# Altium footprint library component_lib.PcbLib: 7 footprints
Each footprint in its own frame and in the unit in brackets; x right, y up, seen from the top. Pads: shape width x height; smd on the part's side, far side on the other; paste and mask are expansions set on the pad; w line width, h text height; cw(c..) or ccw(c..) is an arc to the next point about the centre after c.
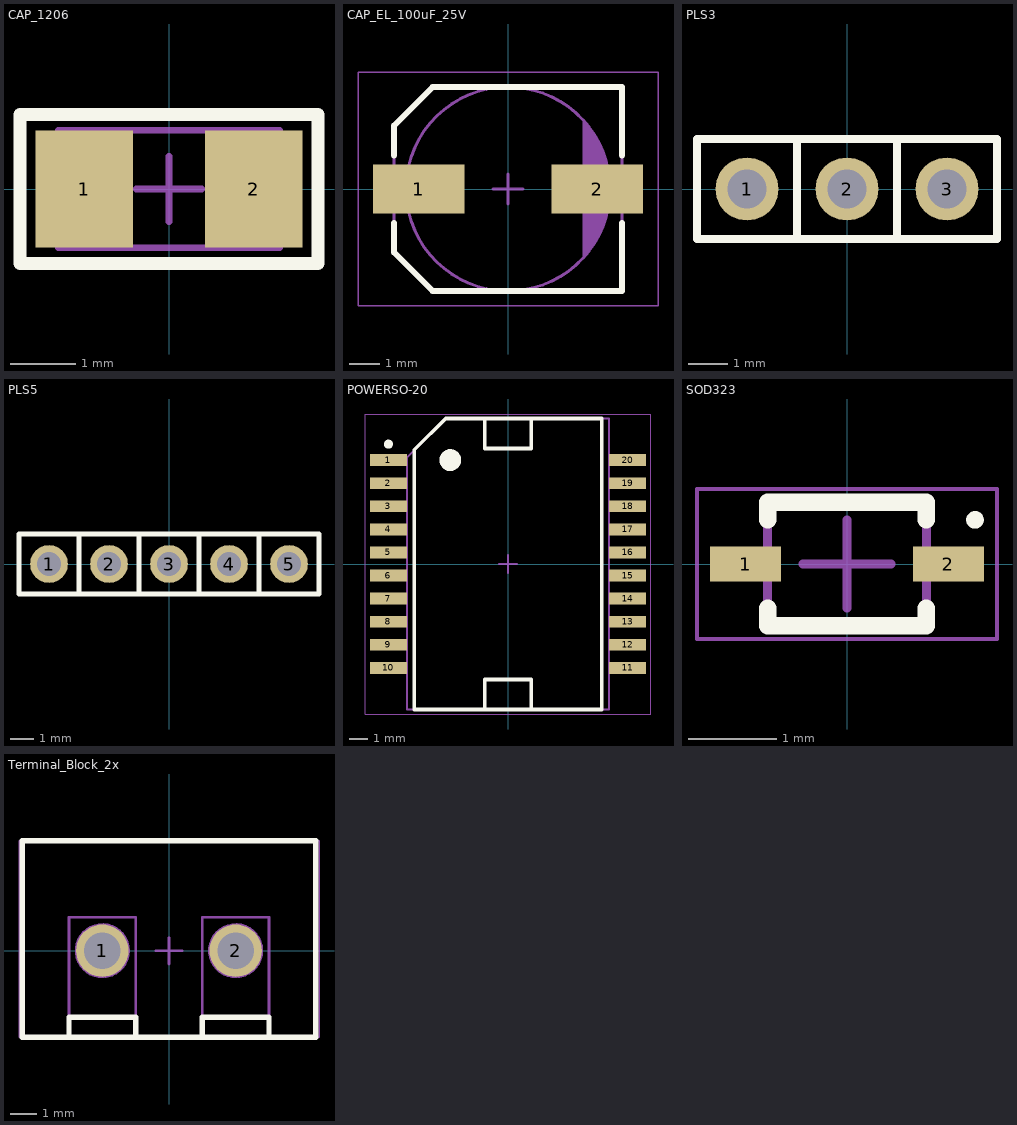
[diagram p0: the footprints below, top view; thin cyan lines are the x and y axes]

## CAP_1206 [mm] "Chip Capacitor, 2-Leads, Body 3,20x1,60mm, IPC Medium Density"
height 1.25
pads (2):
  rect 1.5x1.8 smd: 1(-1.3,0) 2(1.3,0)
Top Overlay:
  lines w0.2: -2.286,-1.143 2.286,-1.143 2.286,1.143 -2.286,1.143 -2.286,-1.143
TopAssy:
  lines w0.1: -1.7,-0.9 -1.7,0.9 1.7,0.9 1.7,-0.9 -1.7,-0.9
CourtyardInfo:
  lines w0.05: -2.3,-1.15 -2.3,1.15 2.3,1.15 2.3,-1.15 -2.3,-1.15
  lines w0.1: -0.5,0 0.5,0 ; 0,-0.5 0,0.5
3D body "CAP_1206_1.step": height 1.25, standoff 0, extent -1.7,-0.9 1.7,0.9

## CAP_EL_100uF_25V [mm] "Aluminum Electrolytic Capacitor, Body 7,50x6,60x8,00mm, IPC Medium Density"
height 8
pads (2):
  rect 3.05x1.65 smd: 1(-2.975,0) 2(2.975,0)
Top Overlay:
  lines w0.2: -3.8,-1.125 -3.8,-2.113 -2.512,-3.4 3.8,-3.4 3.8,-1.125 ; -3.8,1.125 -3.8,2.113 -2.512,3.4 3.8,3.4 3.8,1.125
TopAssy:
  circle w0.1: c0,0 r3.4
  pour cut-out: 2.54,2.261 2.794,2.007 2.794,1.88 2.997,1.676 2.997,1.524 3.15,1.372 3.15,1.194 3.251,1.092 3.251,0.864 3.353,0.762 3.353,-0.762 3.251,-0.864 3.251,-1.092 3.15,-1.194 3.15,-1.372 3.023,-1.499 3.023,-1.626 2.845,-1.803 2.845,-1.905 2.54,-2.21
  lines w0.1: 2.54,-2.261 2.54,2.261 ; -3.8,-2.113 -3.8,2.113 -2.512,3.4 3.8,3.4 3.8,-3.4 -2.512,-3.4 -3.8,-2.113
CourtyardInfo:
  lines w0.05: -5,-3.9 5,-3.9 5,3.9 -5,3.9 -5,-3.9
  lines w0.1: -0.5,0 0.5,0 ; 0,-0.5 0,0.5
3D body "CAP_EL_100uF_25V.step": height 8, standoff 0, extent -3.9,-3.4 3.9,3.4

## PLS3 [mm]
height 8.4
pads (3):
  round 1.6 hole 1: 1(-2.54,0) 2(0,0) 3(2.54,0)
Top Overlay:
  lines w0.2: -1.27,-1.27 -1.27,1.27 ; 1.27,-1.27 1.27,1.27 ; -3.81,-1.27 -3.81,1.27 3.81,1.27 3.81,-1.27 -3.81,-1.27
TopAssy:
  lines w0.1: -1.27,-1.27 -1.27,1.27 ; 1.27,-1.27 1.27,1.27 ; -3.81,-1.27 -3.81,1.27 3.81,1.27 3.81,-1.27 -3.81,-1.27 ; -3.048,-0.508 -3.048,0.508 -2.032,0.508 -2.032,-0.508 -3.048,-0.508 ; -0.508,-0.508 -0.508,0.508 0.508,0.508 0.508,-0.508 -0.508,-0.508 ; 2.032,-0.508 2.032,0.508 3.048,0.508 3.048,-0.508 2.032,-0.508
CourtyardInfo:
  lines w0.05: -3.81,-1.27 -3.81,1.27 3.81,1.27 3.81,-1.27 -3.81,-1.27
  lines w0.1: -0.5,0 0.5,0 ; 0,-0.5 0,0.5
3D body "pls1.step": height 8.44, standoff -3, extent -3.81,-1.27 -1.27,1.27
3D body "pls1.step": height 8.44, standoff -3, extent -1.27,-1.27 1.27,1.27
3D body "pls1.step": height 8.44, standoff -3, extent 1.27,-1.27 3.81,1.27

## PLS5 [mm]
height 8.4
pads (5):
  round 1.6 hole 1: 1(-5.08,0) 2(-2.54,0) 3(0,0) 4(2.54,0) 5(5.08,0)
Top Overlay:
  lines w0.2: -3.81,-1.27 -3.81,1.27 ; -1.27,-1.27 -1.27,1.27 ; 1.27,-1.27 1.27,1.27 ; 3.81,-1.27 3.81,1.27 ; -6.35,-1.27 6.35,-1.27 6.35,1.27 -6.35,1.27 -6.35,-1.27
TopAssy:
  lines w0.1: -3.81,-1.27 -3.81,1.27 ; -1.27,-1.27 -1.27,1.27 ; 1.27,-1.27 1.27,1.27 ; 3.81,-1.27 3.81,1.27 ; -5.588,-0.508 -5.588,0.508 ; -5.588,-0.508 -4.572,-0.508 ; -5.588,-0.508 -4.572,-0.508 ; -5.588,-0.508 -5.588,0.508 ; -5.588,0.508 -4.572,0.508 ; -5.588,0.508 -4.572,0.508 ; -4.572,-0.508 -4.572,0.508 ; -4.572,-0.508 -4.572,0.508 ; -3.048,-0.508 -2.032,-0.508 ; -3.048,-0.508 -3.048,0.508 ; -3.048,-0.508 -2.032,-0.508 ; -3.048,-0.508 -3.048,0.508 ; -3.048,0.508 -2.032,0.508 ; -3.048,0.508 -2.032,0.508 ; -2.032,-0.508 -2.032,0.508 ; -2.032,-0.508 -2.032,0.508 ; -0.508,-0.508 0.508,-0.508 ; -0.508,-0.508 -0.508,0.508 ; -0.508,-0.508 0.508,-0.508 ; -0.508,-0.508 -0.508,0.508 ; -0.508,0.508 0.508,0.508 ; -0.508,0.508 0.508,0.508 ; 0.508,-0.508 0.508,0.508 ; 0.508,-0.508 0.508,0.508 ; 2.032,-0.508 3.048,-0.508 ; 2.032,-0.508 2.032,0.508 ; 2.032,-0.508 2.032,0.508 ; 2.032,-0.508 3.048,-0.508 ; 2.032,0.508 3.048,0.508 ; 2.032,0.508 3.048,0.508 ; 3.048,-0.508 3.048,0.508 ; 3.048,-0.508 3.048,0.508 ; 4.572,-0.508 4.572,0.508 ; 4.572,-0.508 5.588,-0.508 ; 4.572,-0.508 4.572,0.508 ; 4.572,-0.508 5.588,-0.508 ; 4.572,0.508 5.588,0.508 ; 4.572,0.508 5.588,0.508 ; 5.588,-0.508 5.588,0.508 ; 5.588,-0.508 5.588,0.508 ; -6.35,-1.27 6.35,-1.27 6.35,1.27 -6.35,1.27 -6.35,-1.27
CourtyardInfo:
  lines w0.05: -6.35,-1.27 6.35,-1.27 6.35,1.27 -6.35,1.27 -6.35,-1.27
  lines w0.1: -0.5,0 0.5,0 ; 0,-0.5 0,0.5
3D body "pls1.step": height 8.44, standoff -3, extent 3.81,-1.27 6.35,1.27
3D body "pls1.step": height 8.44, standoff -3, extent 1.27,-1.27 3.81,1.27
3D body "pls1.step": height 8.44, standoff -3, extent -1.27,-1.27 1.27,1.27
3D body "pls1.step": height 8.44, standoff -3, extent -3.81,-1.27 -1.27,1.27
3D body "pls1.step": height 8.44, standoff -3, extent -6.35,-1.27 -3.81,1.27

## POWERSO-20 [mm] "POWERSO, 20-Leads, Body 15,90x11,00mm, Pitch 1,27mm, IPC Medium Density"
height 3.6
pads (20):
  rect 2.05x0.65 smd: 1(-6.575,5.715) 2(-6.575,4.445) 3(-6.575,3.175) 4(-6.575,1.905) 5(-6.575,0.635) 6(-6.575,-0.635) 7(-6.575,-1.905) 8(-6.575,-3.175) 9(-6.575,-4.445) 10(-6.575,-5.715) 11(6.575,-5.715) 12(6.575,-4.445) 13(6.575,-3.175) 14(6.575,-1.905) 15(6.575,-0.635) 16(6.575,0.635) 17(6.575,1.905) 18(6.575,3.175) 19(6.575,4.445) 20(6.575,5.715)
Top Overlay:
  circle w0.6: c-3.175,5.715 r0.3
  circle w0.25: c-6.575,6.59 r0.125
  lines w0.2: -1.27,-8 -1.27,-6.35 1.27,-6.35 1.27,-8 ; -1.27,8 -1.27,6.35 1.27,6.35 1.27,8 ; -5.15,-8 5.15,-8 5.15,8 -3.43,8 -5.15,6.28 -5.15,-8
TopAssy:
  circle w0.1: c-3.175,5.715 r0.5
  lines w0.1: -1.27,-8 -1.27,-6.35 1.27,-6.35 1.27,-8 ; -1.27,8.001 -1.27,6.35 1.27,6.35 1.27,8.001 ; -5.55,-8 -5.55,5.88 -3.429,8.001 5.55,8.001 5.55,-8 -5.55,-8
CourtyardInfo:
  lines w0.05: -7.85,-8.25 -7.85,8.25 7.85,8.25 7.85,-8.25 -7.85,-8.25
  lines w0.1: -0.5,0 0.5,0 ; 0,-0.5 0,0.5
3D body "powerso20.step": height 3.6, standoff 0, extent -7.214,-8.001 7.186,7.999

## SOD323 [mm] "SOD323, 2-Leads, Body 1,30x2,50mm, IPC Medium Density"
height 1.05
pads (2):
  rect 0.8x0.4 smd: 1(-1.15,0) 2(1.15,0)
Top Overlay:
  circle w0.1: c1.45,0.5 r0.05
  lines w0.2: -0.9,-0.5 -0.9,-0.7 0.9,-0.7 0.9,-0.5 ; -0.9,0.5 -0.9,0.7 0.9,0.7 0.9,0.5
TopAssy:
  lines w0.1: -0.9,-0.7 0.9,-0.7 0.9,0.7 -0.9,0.7 -0.9,-0.7
CourtyardInfo:
  lines w0.05: -1.7,-0.85 1.7,-0.85 1.7,0.85 -1.7,0.85 -1.7,-0.85
  lines w0.1: -0.5,0 0.5,0 ; 0,-0.5 0,0.5
3D body "SOD323.step": height 1.05, standoff 0, extent -1.25,-0.7 1.25,0.7

## Terminal_Block_2x [mm]
pads (2):
  round 2 hole 1.4: 1(-2.54,0) 2(2.54,0)
Top Overlay:
  lines w0.2: -3.81,-3.302 -3.81,-2.54 -1.27,-2.54 -1.27,-3.302 ; 1.27,-3.302 1.27,-2.54 3.81,-2.54 3.81,-3.302 ; -5.588,-3.302 -5.588,4.191 5.588,4.191 5.588,-3.302 -5.588,-3.302
TopAssy:
  circle w0.1: c2.54,0 r1
  circle w0.1: c-2.54,0 r1
  rectangle: 1.549,-0.127 3.54,0.127
  rectangle: 2.413,-0.991 2.667,0.991
  rectangle: -2.667,-0.991 -2.413,0.991
  rectangle: -3.531,-0.127 -1.54,0.127
  lines w0.1: -3.81,-3.302 -3.81,1.27 -1.27,1.27 -1.27,-3.302 ; -3.81,-2.54 -1.27,-2.54 ; -3.531,-0.127 -2.667,-0.127 -2.667,-0.991 ; -3.531,0.127 -2.667,0.127 -2.667,0.991 ; -2.413,-0.991 -2.413,-0.127 -1.549,-0.127 ; -2.413,0.991 -2.413,0.127 -1.549,0.127 ; 1.27,-3.302 1.27,1.27 3.81,1.27 3.81,-3.302 ; 1.27,-2.54 3.81,-2.54 ; 1.549,-0.127 2.413,-0.127 2.413,-0.991 ; 1.549,0.127 2.413,0.127 2.413,0.991 ; 2.667,-0.991 2.667,-0.127 3.531,-0.127 ; 2.667,0.991 2.667,0.127 3.531,0.127 ; -5.588,-3.302 5.588,-3.302 5.588,4.191 -5.588,4.191 -5.588,-3.302
CourtyardInfo:
  lines w0.05: -5.715,-3.302 5.715,-3.302 5.715,4.191 -5.715,4.191 -5.715,-3.302
  lines w0.1: -0.5,-0.009 0.5,-0.009 ; 0,-0.509 0,0.491
3D body "TE_1776244-2.STEP": height 10, standoff -3.5, extent -5.58,-3.309 5.58,4.191